# EAGLE library part CXA1645 (library Sony_Video_Encoder)
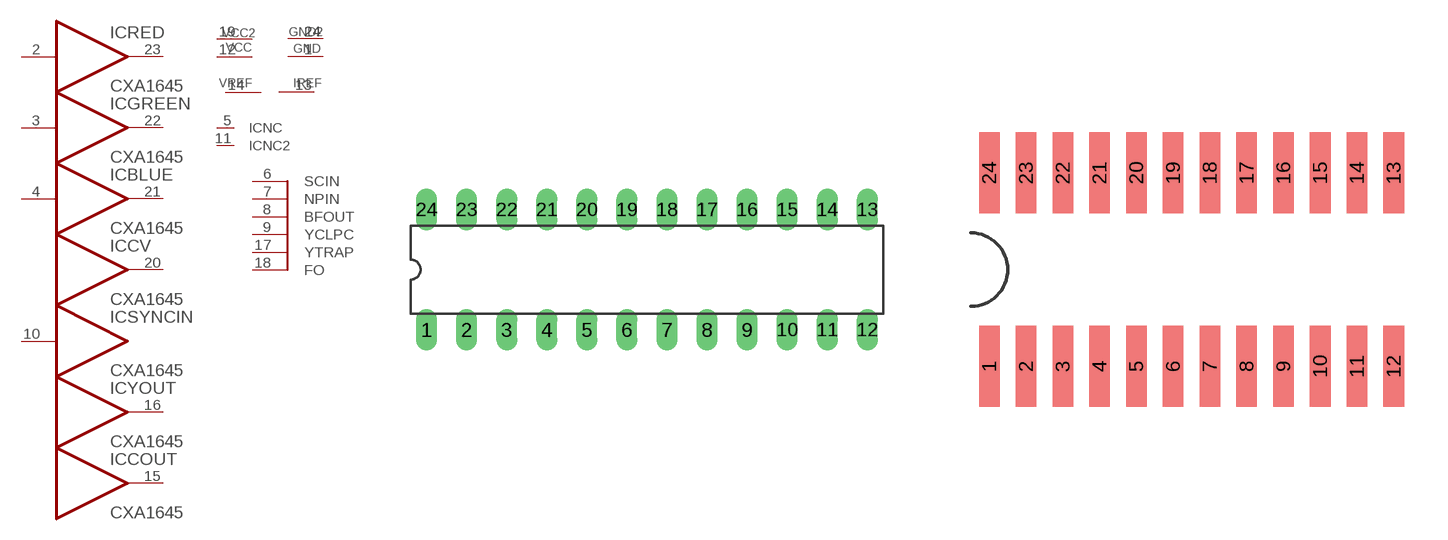
[diagram p1: symbol with the pads of DIL24; footprints DIL24, SOP24N]

Designator prefix IC; gates RED=BUFFER GREEN=BUFFER BLUE=BUFFER CV=BUFFERNOIN SYNCIN=BUFFERNOOUT G$6=PWRN_VCC2 G$7=VREF YOUT=BUFFERNOIN COUT=BUFFERNOIN NC=NC NC2=NC ENCODER_PIN=CXA1645

## CXA1645P  [DIL24]
1  G$6:GND  pwr
2  RED:I
3  GREEN:I
4  BLUE:I
5  NC:NC  nc
6  ENCODER_PIN:SCIN
7  ENCODER_PIN:NPIN
8  ENCODER_PIN:BFOUT  out
9  ENCODER_PIN:YCLPC
10  SYNCIN:I
11  NC2:NC  nc
12  G$6:VCC  pwr
13  G$7:IREF
14  G$7:VREF
15  COUT:O  out
16  YOUT:O  out
17  ENCODER_PIN:YTRAP
18  ENCODER_PIN:FO
19  G$6:VCC2  pwr
20  CV:O  out
21  BLUE:O  out
22  GREEN:O  out
23  RED:O  out
24  G$6:GND2  pwr

## CXA1645M  [SOP24N]
Pads as for DIL24

## Footprint DIL24 (pad centres in mm)
Dual In Line Package 0.3 inch
drill 0.813 long: 1 -13.97,-3.81; 2 -11.43,-3.81; 3 -8.89,-3.81; 4 -6.35,-3.81; 5 -3.81,-3.81; 6 -1.27,-3.81; 7 1.27,-3.81; 8 3.81,-3.81; 9 6.35,-3.81; 10 8.89,-3.81; 11 11.43,-3.81; 12 13.97,-3.81; 13 13.97,3.81; 14 11.43,3.81; 15 8.89,3.81; 16 6.35,3.81; 17 3.81,3.81; 18 1.27,3.81; 19 -1.27,3.81; 20 -3.81,3.81; 21 -6.35,3.81; 22 -8.89,3.81; 23 -11.43,3.81; 24 -13.97,3.81

## Footprint SOP24N (pad centres in mm)
smd 0.711 x 2.794: 1 -5.715,-3.34; 2 -4.445,-3.34; 3 -3.175,-3.34; 4 -1.905,-3.34; 5 -0.635,-3.34; 6 0.635,-3.34; 7 1.905,-3.34; 8 3.175,-3.34; 9 4.445,-3.34; 10 5.715,-3.34; 11 6.985,-3.34; 12 8.255,-3.34; 13 8.255,3.34; 14 6.985,3.34; 15 5.715,3.34; 16 4.445,3.34; 17 3.175,3.34; 18 1.905,3.34; 19 0.635,3.34; 20 -0.635,3.34; 21 -1.905,3.34; 22 -3.175,3.34; 23 -4.445,3.34; 24 -5.715,3.34